# Altium footprint library pipe.PcbLib: 1 footprints
Each footprint in its own frame and in the unit in brackets; x right, y up, seen from the top. Pads: shape width x height; smd on the part's side, far side on the other; paste and mask are expansions set on the pad; w line width, h text height; cw(c..) or ccw(c..) is an arc to the next point about the centre after c.
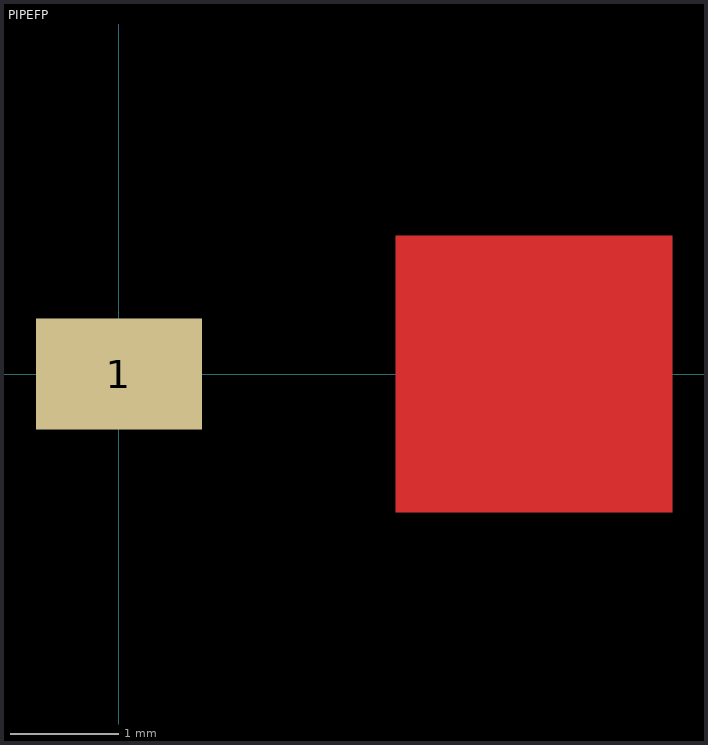
[diagram p0: the footprint, top view; thin cyan lines are the x and y axes]

## PIPEFP [mil] "A"
pads (1):
  rect 60x40 smd: 1(0,0)
Top Layer:
  dashed: 100,50 100,-50 200,-50 200,50